# EAGLE library part HDR_1X9 (library bleHAT)
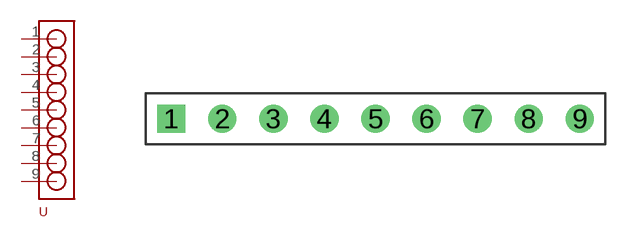
[diagram p5: symbol with the pads of HDR_1X9; footprint HDR_1X9]

Designator prefix -

## HDR_1X9  [HDR_1X9]
1  P$1
2  P$2
3  P$3
4  P$4
5  P$5
6  P$6
7  P$7
8  P$8
9  P$9

## Footprint HDR_1X9 (pad centres in mm)
drill 0.9 square: 1 -10.16,0
drill 0.9: 2 -7.62,0; 3 -5.08,0; 4 -2.54,0; 5 0,0; 6 2.54,0; 7 5.08,0; 8 7.62,0; 9 10.16,0